# EAGLE library part HEADER-5X(1X04) (library magzor)
for -QUINT-SERVO-FDBK, be sure to set letter attributes (e.g. >C) to a servo number (e.g. 3)
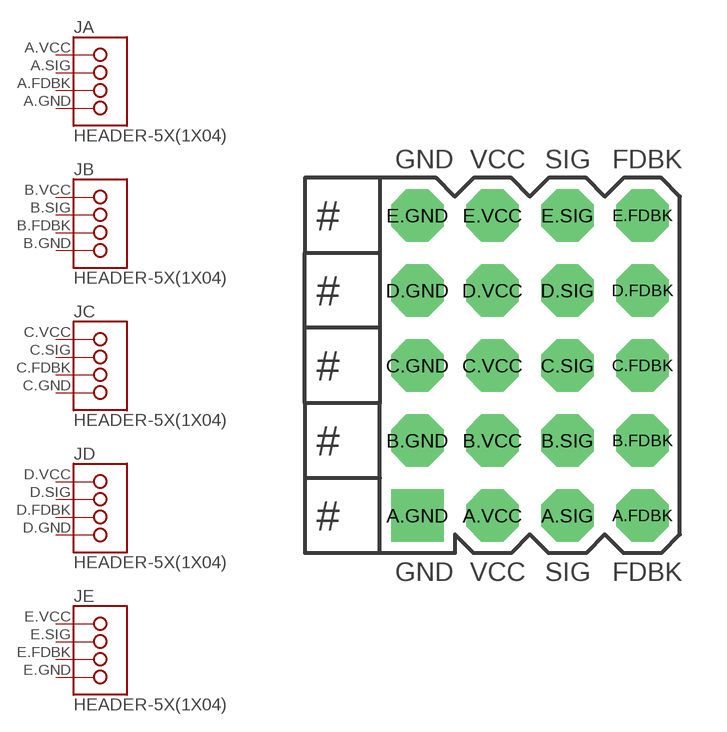
[diagram p30: symbol with the pads of HEADER-5X04-QUINT-SERVO-FDBK; footprint HEADER-5X04-QUINT-SERVO-FDBK]

Designator prefix J; gates A=HEADER-1X04 B=HEADER-1X04 C=HEADER-1X04 D=HEADER-1X04 E=HEADER-1X04

## HEADER-5X(1X04)-QUINT-SERVO-FDBK  [HEADER-5X04-QUINT-SERVO-FDBK]
A.FDBK  A:3
A.GND  A:4
A.SIG  A:2
A.VCC  A:1
B.FDBK  B:3
B.GND  B:4
B.SIG  B:2
B.VCC  B:1
C.FDBK  C:3
C.GND  C:4
C.SIG  C:2
C.VCC  C:1
D.FDBK  D:3
D.GND  D:4
D.SIG  D:2
D.VCC  D:1
E.FDBK  E:3
E.GND  E:4
E.SIG  E:2
E.VCC  E:1

## Footprint HEADER-5X04-QUINT-SERVO-FDBK (pad centres in mm)
you can use 2x(5x02) headers (e.g. FCI 67996-110HLF) for this to save time
drill 0.965 pad 1.778 octagon: A.FDBK 3.81,-5.08; A.SIG 1.27,-5.08; A.VCC -1.27,-5.08; B.FDBK 3.81,-2.54; B.GND -3.81,-2.54; B.SIG 1.27,-2.54; B.VCC -1.27,-2.54; C.FDBK 3.81,0; C.GND -3.81,0; C.SIG 1.27,0; C.VCC -1.27,0; D.FDBK 3.81,2.54; D.GND -3.81,2.54; D.SIG 1.27,2.54; D.VCC -1.27,2.54; E.FDBK 3.81,5.08; E.GND -3.81,5.08; E.SIG 1.27,5.08; E.VCC -1.27,5.08
drill 0.965 pad 1.778 square: A.GND -3.81,-5.08